# EAGLE library part PCAL6416A (library nxp_60)
Short Description AAL Eindhoven MK
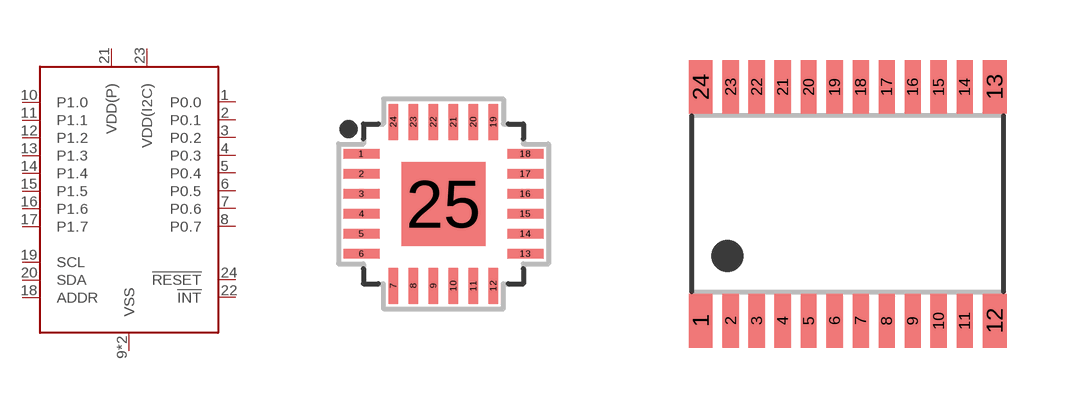
[diagram p113: symbol with the pads of SOT994; footprints SOT994, SOT355-1]

Designator prefix -

## PCAL6416AHF  [SOT994]
1  P0.0
2  P0.1
3  P0.2
4  P0.3
5  P0.4
6  P0.5
7  P0.6
8  P0.7
9  VSS
10  P1.0
11  P1.1
12  P1.2
13  P1.3
14  P1.4
15  P1.5
16  P1.6
17  P1.7
18  ADDR  in
19  SCL
20  SDA
21  VDD(P)  pwr
22  !INT!  out
23  VDD(I2C)  pwr
24  !RESET!  in
25  VSS

## PCAL6416APW  [SOT355-1]
1  !INT!  out
2  VDD(I2C)  pwr
3  !RESET!  in
4  P0.0
5  P0.1
6  P0.2
7  P0.3
8  P0.4
9  P0.5
10  P0.6
11  P0.7
12  VSS
13  P1.0
14  P1.1
15  P1.2
16  P1.3
17  P1.4
18  P1.5
19  P1.6
20  P1.7
21  ADDR  in
22  SCL
23  SDA
24  VDD(P)  pwr

## PCAL6416AEV  [SOT1199-1]
A1  P0.0
A2  !RESET!  in
A3  !INT!  out
A4  SDA
A5  SCL
B1  P0.2
B3  VDD(I2C)  pwr
B4  VDD(P)  pwr
B5  ADDR  in
C1  P0.3
C2  P0.4
C3  P0.1
C4  P1.7
C5  P1.6
D1  P0.5
D2  P0.7
D3  P1.2
D4  P1.4
D5  P1.5
E1  P0.6
E2  VSS
E3  P1.0
E4  P1.1
E5  P1.3

## Footprint SOT994 (pad centres in mm)
SOT994 HWQFN24: plastic thermal enhanced very very thin quad flat package; no leads; 24 terminals; body 4 x 4 x 0.75 mm JEDEC: IEC: -- JEITA: --
smd 0.9 x 0.24: 1 -2.05,1.25; 2 -2.05,0.75; 3 -2.05,0.25; 4 -2.05,-0.25; 5 -2.05,-0.75; 6 -2.05,-1.25; 13 2.05,-1.25; 14 2.05,-0.75; 15 2.05,-0.25; 16 2.05,0.25; 17 2.05,0.75; 18 2.05,1.25
smd 0.24 x 0.9: 7 -1.25,-2.05; 8 -0.75,-2.05; 9 -0.25,-2.05; 10 0.25,-2.05; 11 0.75,-2.05; 12 1.25,-2.05; 19 1.25,2.05; 20 0.75,2.05; 21 0.25,2.05; 22 -0.25,2.05; 23 -0.75,2.05; 24 -1.25,2.05
smd 2.1 x 2.1: 25 0,0

## Footprint SOT355-1 (pad centres in mm)
SOT355-1 TSSOP24: plastic thin shrink small outline package; 24 leads; body width 4.4 mm JEDEC: MO-153 IEC: -- JEITA: --
smd 0.6 x 1.35: 1 -3.675,-2.925; 12 3.675,-2.925; 13 3.675,2.925; 24 -3.675,2.925
smd 0.4 x 1.35: 2 -2.925,-2.925; 3 -2.275,-2.925; 4 -1.625,-2.925; 5 -0.975,-2.925; 6 -0.325,-2.925; 7 0.325,-2.925; 8 0.975,-2.925; 9 1.625,-2.925; 10 2.275,-2.925; 11 2.925,-2.925; 14 2.925,2.925; 15 2.275,2.925; 16 1.625,2.925; 17 0.975,2.925; 18 0.325,2.925; 19 -0.325,2.925; 20 -0.975,2.925; 21 -1.625,2.925; 22 -2.275,2.925; 23 -2.925,2.925

## Footprint SOT1199-1 (pad centres in mm)
SOT1199-1 VFBGA24: plastic very thin fine-pitch ball grid array package; 24 balls; body 3 x 3 x 0.65 mm JEDEC: -- IEC: -- JEITA: --
smd 0.255 x 0.255: A1 -1,1; A2 -0.5,1; A3 0,1; A4 0.5,1; A5 1,1; B1 -1,0.5; B3 0,0.5; B4 0.5,0.5; B5 1,0.5; C1 -1,0; C2 -0.5,0; C3 0,0; C4 0.5,0; C5 1,0; D1 -1,-0.5; D2 -0.5,-0.5; D3 0,-0.5; D4 0.5,-0.5; D5 1,-0.5; E1 -1,-1; E2 -0.5,-1; E3 0,-1; E4 0.5,-1; E5 1,-1